# EAGLE library part LTC1658MS8 (library linear-technology)
DIGITAL/ANALOG CONVERTER
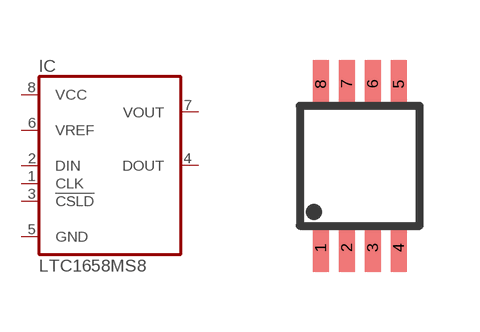
[diagram p2: symbol with the pads of MSOP8; footprint MSOP8]

Designator prefix IC

## LTC1658MS8  [MSOP8]
1  CLK  in
2  DIN  in
3  !CSLD  in
4  DOUT  out
5  GND  pwr
6  VREF  in
7  VOUT  out
8  VCC  pwr

## Footprint MSOP8 (pad centres in mm)
MSOP8
smd 0.4 x 1.2: 1 -0.975,-2.05; 2 -0.325,-2.05; 3 0.325,-2.05; 4 0.975,-2.05; 5 0.975,2.05; 6 0.325,2.05; 7 -0.325,2.05; 8 -0.975,2.05